# EAGLE library part 6180XX330923_618062330923 (library 618015233821_Eagle_WR-DSUB_rev20a)
WR-DSUB Female High Density Angled PCB Connector w. Hex Screw Kind Properties Gender:Female Type:Angled Insulator Material:PBT Insulator Flammability Rating:UL94 V-0 Color:Black Contact Material:Copper Alloy Contact Plating:Selective Gold Contact Type:Stamped Shielding Material:Steel Shielding Plating:Nickel General Information Operating Temperature:-55 up to +105 °C Electrical Properties Working Voltage:60V (AC) Withstanding Voltage:1000 V (AC) Contact Resistance:30 mΩ <https://www.we-online.com/catalog/media/o33093v209%20Family_WR-DSUB_6180xx330923.jpg> Details see: https://www.we-online.com/catalog/en/DSUB_FEMALE_HIGH_DENSITY_ANGLED_PCB_CONNECTOR_W_HEX_SCREW_6180XX330923/ Updated by Yingchun, Shan 2020-01-14 2020 (C) Würth Elektronik
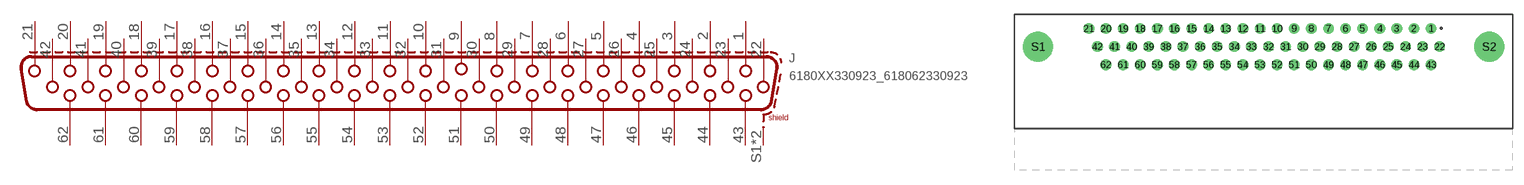
[diagram p62: symbol with the pads of 618062330923; footprint 618062330923]

Designator prefix J

## 6180XX330923_618062330923 (WE-NUMBER: 618062330923)  [618062330923]
1  1
2  2
3  3
4  4
5  5
6  6
7  7
8  8
9  9
10  10
11  11
12  12
13  13
14  14
15  15
16  16
17  17
18  18
19  19
20  20
21  21
22  22
23  23
24  24
25  25
26  26
27  27
28  28
29  29
30  30
31  31
32  32
33  33
34  34
35  35
36  36
37  37
38  38
39  39
40  40
41  41
42  42
43  43
44  44
45  45
46  46
47  47
48  48
49  49
50  50
51  51
52  52
53  53
54  54
55  55
56  56
57  57
58  58
59  59
60  60
61  61
62  62
S1  SHIELD
S2  SHIELD

## Footprint 618062330923 (pad centres in mm)
WR-DSUB Female High Density Angled PCB Connector with Hex Screw, 62 Pins
drill 1: 1 23.59,9.02; 2 21.18,9.02; 3 18.77,9.02; 4 16.36,9.02; 5 13.95,9.02; 6 11.54,9.02; 7 9.13,9.02; 8 6.72,9.02; 9 4.31,9.02; 10 1.9,9.02; 11 -0.51,9.02; 12 -2.92,9.02; 13 -5.33,9.02; 14 -7.74,9.02; 15 -10.15,9.02; 16 -12.56,9.02; 17 -14.97,9.02; 18 -17.38,9.02; 19 -19.79,9.02; 20 -22.2,9.02; 21 -24.61,9.02; 22 24.795,6.48; 23 22.385,6.48; 24 19.975,6.48; 25 17.565,6.48; 26 15.155,6.48; 27 12.745,6.48; 28 10.335,6.48; 29 7.925,6.48; 30 5.515,6.48; 31 3.105,6.48; 32 0.695,6.48; 33 -1.715,6.48; 34 -4.125,6.48; 35 -6.535,6.48; 36 -8.935,6.48; 37 -11.355,6.48; 38 -13.765,6.48; 39 -16.175,6.48; 40 -18.585,6.48; 41 -20.995,6.48; 42 -23.405,6.48; 43 23.59,3.94; 44 21.18,3.94; 45 18.77,3.94; 46 16.36,3.94; 47 13.95,3.94; 48 11.54,3.94; 49 9.13,3.94; 50 6.72,3.94; 51 4.31,3.94; 52 1.9,3.94; 53 -0.51,3.94; 54 -2.92,3.94; 55 -5.33,3.94; 56 -7.74,3.94; 57 -10.15,3.94; 58 -12.56,3.94; 59 -14.97,3.94; 60 -17.38,3.94; 61 -19.79,3.94; 62 -22.2,3.94
drill 3.2: S1 -31.75,6.48; S2 31.75,6.48